# Altium schematic symbol library Voltage Reference.SchLib: 2 symbols
Pins are listed as number, name and electrical type; pins without a type are passive.

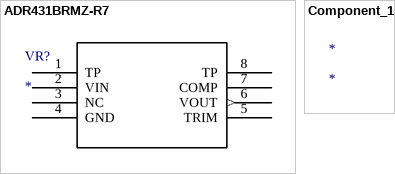
[diagram p0: symbols ADR431BRMZ-R7 to Component_1]

## ADR431BRMZ-R7
designator VR?
No Description Available; Mfr_Name: Analog Devices Inc; RefDes: RefDes; Type: Type
footprint RM_8_ADI
pins: 1 TP, 2 VIN, 3 NC, 4 GND (power), 5 TRIM, 6 VOUT (out), 7 COMP, 8 TP

## Component_1
designator *